# Altium footprint library PCB - IND - ARCP_Coilholder_CustomCoil.PCBLIB: 1 footprints
Each footprint in its own frame and in the unit in brackets; x right, y up, seen from the top. Pads: shape width x height; smd on the part's side, far side on the other; paste and mask are expansions set on the pad; w line width, h text height; cw(c..) or ccw(c..) is an arc to the next point about the centre after c.
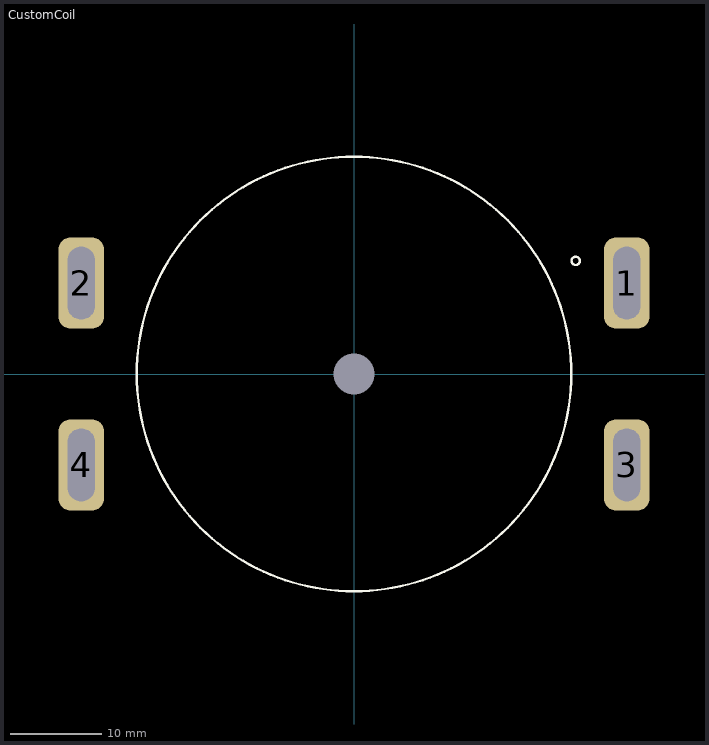
[diagram p0: the footprint, top view; thin cyan lines are the x and y axes]

## CustomCoil [mm]
pads (5):
  rrect50% 5x10 hole 3 slot 8 at 90 deg: 1(30,10) 2(-30,10) 3(30,-10) 4(-30,-10)
  rrect50% 0x0 hole 4.5 unplated: 5(0,0)
Top Overlay:
  circle w0.254: c24.384,12.446 r0.458
  circle w0.254: c0,0 r23.903
3D body "ARCP_Coil_holder v4.step": height 21, standoff 0, extent -22.974,-23 19.919,23